# Altium footprint library SamacSys.PcbLib: 4 footprints
Each footprint in its own frame and in the unit in brackets; x right, y up, seen from the top. Pads: shape width x height; smd on the part's side, far side on the other; paste and mask are expansions set on the pad; w line width, h text height; cw(c..) or ccw(c..) is an arc to the next point about the centre after c.
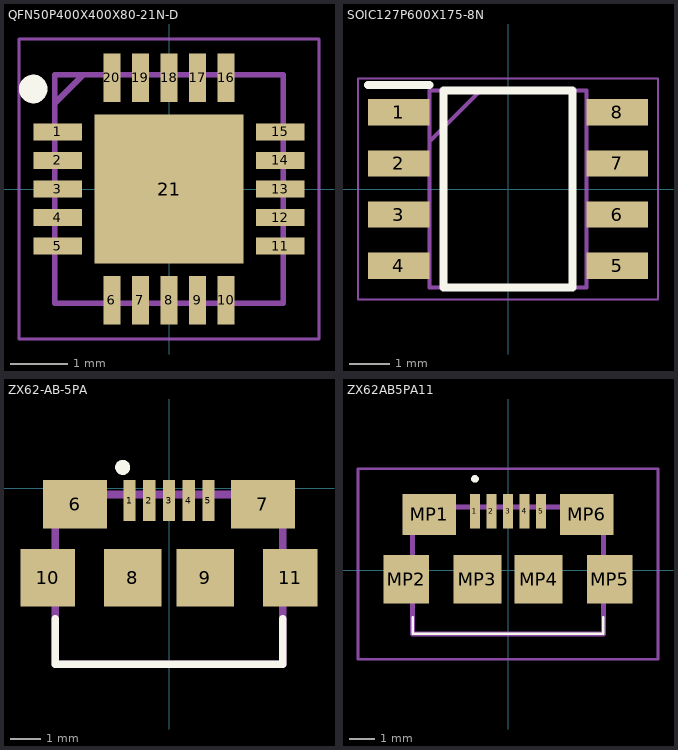
[diagram p0: the footprints below, top view; thin cyan lines are the x and y axes]

## QFN50P400X400X80-21N-D [mm]
pads (21):
  rect 0.85x0.3 smd: 1(-1.95,1) 2(-1.95,0.5) 3(-1.95,0) 4(-1.95,-0.5) 5(-1.95,-1) 11(1.95,-1) 12(1.95,-0.5) 13(1.95,0) 14(1.95,0.5) 15(1.95,1)
  rect 0.3x0.85 smd: 6(-1,-1.95) 7(-0.5,-1.95) 8(0,-1.95) 9(0.5,-1.95) 10(1,-1.95) 16(1,1.95) 17(0.5,1.95) 18(0,1.95) 19(-0.5,1.95) 20(-1,1.95)
  rect 2.6x2.6 smd: 21(0,0)
Top Overlay:
  circle w0.25: c-2.375,1.75 r0.125
Mechanical 13:
  lines w0.1: -2,1.5 -1.5,2 ; -2,-2 2,-2 2,2 -2,2 -2,-2
Mechanical 15:
  lines w0.05: -2.625,-2.625 2.625,-2.625 2.625,2.625 -2.625,2.625 -2.625,-2.625
3D body "TMUX7234RRQR.stp": height 0.8, standoff 0, extent -2,-2 2,2

## SOIC127P600X175-8N [mm]
pads (8):
  rect 1.525x0.65 smd: 1(-2.712,1.905) 2(-2.712,0.635) 3(-2.712,-0.635) 4(-2.712,-1.905) 5(2.712,-1.905) 6(2.712,-0.635) 7(2.712,0.635) 8(2.712,1.905)
Top Overlay:
  lines w0.2: -3.475,2.58 -1.95,2.58 ; -1.6,-2.45 -1.6,2.45 1.6,2.45 1.6,-2.45 -1.6,-2.45
Mechanical 13:
  lines w0.1: -1.95,1.18 -0.68,2.45 ; -1.95,-2.45 -1.95,2.45 1.95,2.45 1.95,-2.45 -1.95,-2.45
Mechanical 15:
  lines w0.05: -3.725,-2.75 -3.725,2.75 3.725,2.75 3.725,-2.75 -3.725,-2.75
3D body "NE555DR.stp": height 1.75, standoff 0, extent -3,-2.45 3,2.45

## ZX62-AB-5PA [mm]
pads (11):
  rect 0.4x1.35 smd: 1(-1.3,-0.4) 2(-0.65,-0.4) 3(0,-0.4) 4(0.65,-0.4) 5(1.3,-0.4)
  rect 2.1x1.6 smd: 6(-3.1,-0.525) 7(3.1,-0.525)
  rect 1.9x1.9 smd: 8(-1.2,-2.95) 9(1.2,-2.95)
  rect 1.8x1.9 smd: 10(-4,-2.95) 11(4,-2.95)
Top Overlay:
  circle w0.254: c-1.528,0.697 r0.119
  lines w0.254: -3.75,-4.3 -3.75,-5.8 3.75,-5.8 3.75,-4.3
Mechanical 13:
  lines w0.254: -3.75,-5.8 -3.75,-0.2 3.75,-0.2 3.75,-5.8 -3.75,-5.8
3D body "ZX62-AB-5PA.stp": height 2.75, standoff -0.2, extent -4.405,-5.68 4.395,-0.08

## ZX62AB5PA11 [mm]
pads (11):
  rect 0.4x1.35 smd: 1(-1.3,2.325) 2(-0.65,2.325) 3(0,2.325) 4(0.65,2.325) 5(1.3,2.325)
  rect 2.1x1.6 smd: MP1(-3.1,2.2) MP6(3.1,2.2)
  rect 1.8x1.9 smd: MP2(-4,-0.35) MP5(4,-0.35)
  rect 1.9x1.9 smd: MP3(-1.2,-0.35) MP4(1.2,-0.35)
Top Overlay:
  lines w0.1: -3.75,-2.5 3.75,-2.5 ; -3.75,-2.5 3.75,-2.5 ; -3.75,-2.5 -3.75,-1.85 -3.75,-2.5 ; 3.75,-2.5 3.75,-1.85 3.75,-2.5
  lines w0.2: -1.3,3.55 ccw(c-1.3,3.6) -1.3,3.65 ; -1.3,3.55 cw(c-1.3,3.6) -1.3,3.65 ; -1.3,3.55 ccw(c-1.3,3.6) -1.3,3.65
Mechanical 13:
  lines w0.2: -3.75,-2.5 -3.75,2.5 3.75,2.5 3.75,-2.5 -3.75,-2.5
Mechanical 15:
  lines w0.1: -5.9,-3.5 -5.9,4 5.9,4 5.9,-3.5 -5.9,-3.5
3D body "ZX62-AB-5PA_11_.stp": height 2.9, standoff 0, extent -4.72,-2.5 4.72,2.96